# EAGLE library part LM2678 (library LinnesLab-Power)
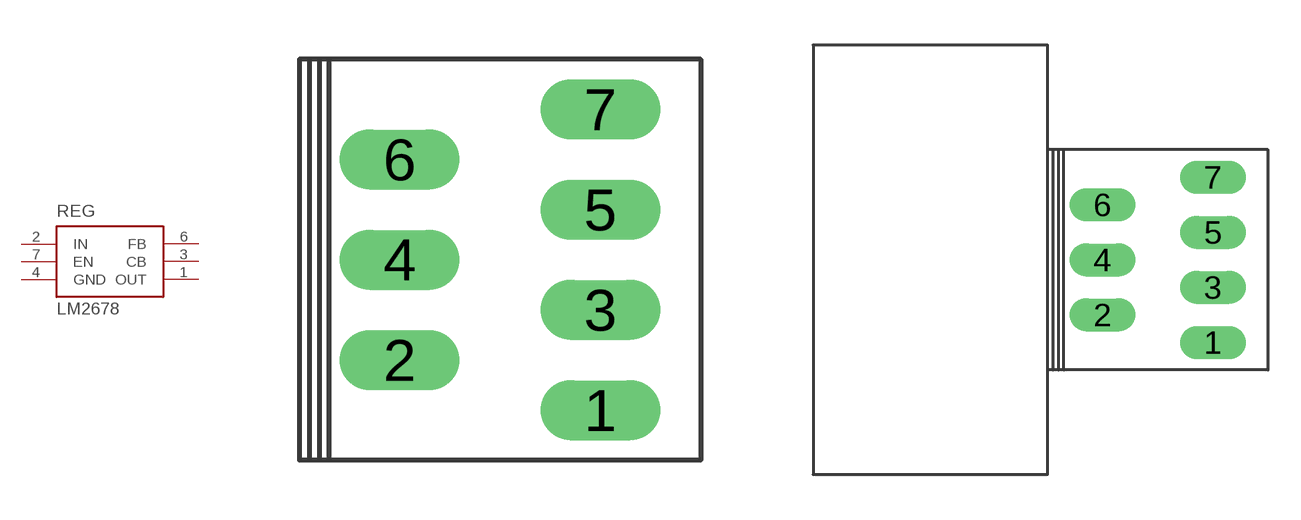
[diagram p2: symbol with the pads of TO-220-7; footprints TO-220-7, TO-220-7-W.HEATSINK.504222B00000G]

Designator prefix REG

## LM2678  [TO-220-7]
1  OUT
2  IN
3  CB
4  GND
6  FB
7  EN

## LM2678.HS.504222B00000G  [TO-220-7-W.HEATSINK.504222B00000G]
Pads as for TO-220-7

## LM2678.HS.RA-T2X-51E  [TO-220-7-W.HEATSINK.RA-T2X-51E]
Pads as for TO-220-7

## Footprint TO-220-7 (pad centres in mm)
drill 1.016 long: 1 2.54,-3.81; 2 -2.54,-2.54; 3 2.54,-1.27; 4 -2.54,0; 5 2.54,1.27; 6 -2.54,2.54; 7 2.54,3.81

## Footprint TO-220-7-W.HEATSINK.504222B00000G (pad centres in mm)
drill 1.016 long: 1 2.54,-3.81; 2 -2.54,-2.54; 3 2.54,-1.27; 4 -2.54,0; 5 2.54,1.27; 6 -2.54,2.54; 7 2.54,3.81

## Footprint TO-220-7-W.HEATSINK.RA-T2X-51E (pad centres in mm)
drill 1.016 long: 1 2.54,-3.81; 2 -2.54,-2.54; 3 2.54,-1.27; 4 -2.54,0; 5 2.54,1.27; 6 -2.54,2.54; 7 2.54,3.81
hole 2.5 at -5.08,12.7
hole 2.5 at -5.08,-12.7